# Altium schematic symbol library parts.SchLib: 8 symbols
Pins are listed as number, name and electrical type; pins without a type are passive.

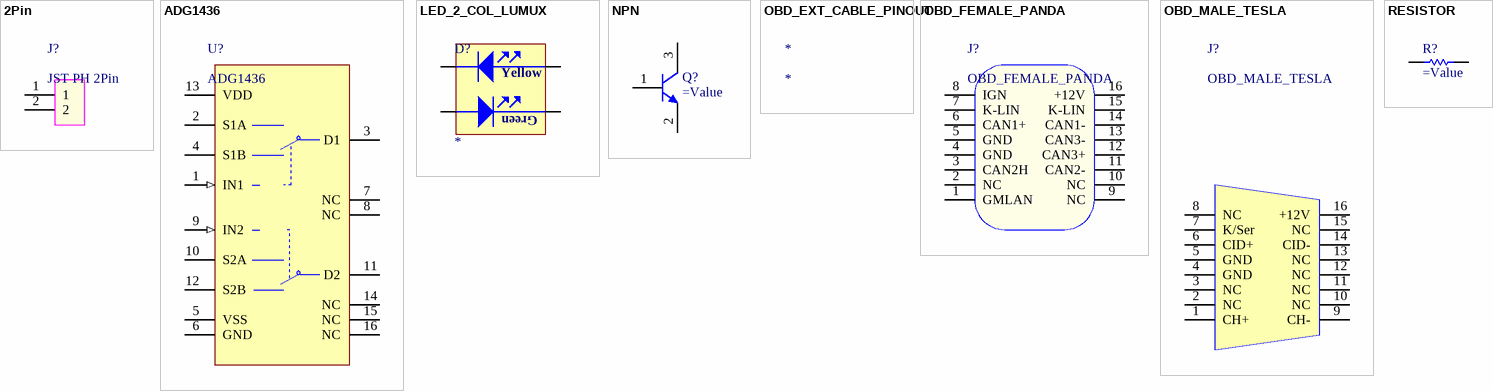
[diagram p0: symbols 2Pin to RESISTOR]

## 2Pin
designator J?, comment JST PH 2Pin
footprint JST_PH_2PINS
pins: 1, 2

## ADG1436
designator U?
1.5 Ω On Resistance,  ±15 V/12 V/±5 V, iCMOS, Dual SPDT Switch
footprint TSSOP16 (TSOP, 16-Leads, Body 5,1x4,5mm (max), Pitch 0,65mm, IPC Medium Density)
pins: 1 IN1 (in), 2 S1A, 3 D1, 4 S1B, 5 VSS (power), 6 GND (power), 7 NC, 8 NC, 9 IN2 (in), 10 S2A, 11 D2, 12 S2B, 13 VDD (power), 14 NC, 15 NC, 16 NC

## LED_2_COL_LUMUX
designator D?
footprint LED_BICOLOR_1210 (Bicolor LED; Body 3.2 x 2.7 mm (LxW typ))
pins: 1A ANODE1, 1C CATHODE1, 2A ANODE2, 2C CATHODE2
text: Yellow; Green

## NPN
designator Q?
NPN Bipolar Transistor
footprint SOT23-3N (SOT23, 3-Leads, Body 2.9x1.3mm, Pitch 0.95mm, Lead Span 2.5mm, IPC Medium Density)
pins: 1 B, 2 E, 3 C

## OBD_EXT_CABLE_PINOUT
designator *

## OBD_FEMALE_PANDA
designator J?
OBD Female connector
footprint OBD_FEMALE (OBD Female connector)
pins: 1 GMLAN, 2 NC, 3 CAN2H, 4 GND, 5 GND, 6 CAN1+, 7 K-LIN, 8 IGN, 9 NC, 10 NC, 11 CAN2-, 12 CAN3+, 13 CAN3-, 14 CAN1-, 15 K-LIN, 16 +12V

## OBD_MALE_TESLA
designator J?
OBD Male connector
footprint OBD_MALE (OBD Male connector)
pins: 1 CH+, 2 NC, 3 NC, 4 GND, 5 GND, 6 CID+, 7 K/Ser, 8 NC, 9 CH-, 10 NC, 11 NC, 12 NC, 13 NC, 14 CID-, 15 NC, 16 +12V

## RESISTOR
designator R?
Semiconductor Resistor
footprint R_0603
footprint R_1206 (Chip resistor, 2-Leads, Body 3,2x1,6mm, IPC Medium Density)
pins: 1, 2